# EAGLE library part 26SHC-B-1A (library shc_con)
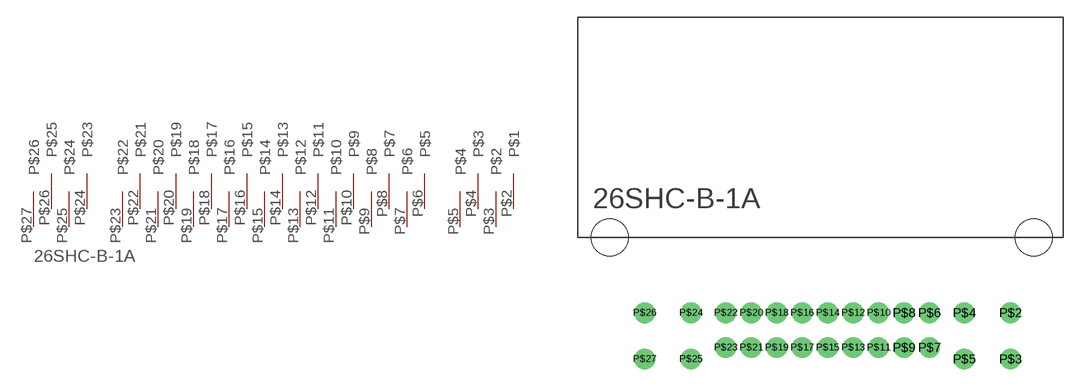
[diagram p1: symbol with the pads of 26SHC-B-1A; footprint 26SHC-B-1A]

Designator prefix -

## 26SHC-B-1A  [26SHC-B-1A]
P$2  P$1
P$3  P$2
P$4  P$3
P$5  P$4
P$6  P$5
P$7  P$6
P$8  P$7
P$9  P$8
P$10  P$9
P$11  P$10
P$12  P$11
P$13  P$12
P$14  P$13
P$15  P$14
P$16  P$15
P$17  P$16
P$18  P$17
P$19  P$18
P$20  P$19
P$21  P$20
P$22  P$21
P$23  P$22
P$24  P$23
P$25  P$24
P$26  P$25
P$27  P$26

## Footprint 26SHC-B-1A (pad centres in mm)
drill 1.2: P$2 -2,-6.5; P$3 -2,-10.5; P$4 -6,-6.5; P$5 -6,-10.5; P$6 -9,-6.5; P$7 -9,-9.5; P$8 -11.2,-6.5; P$9 -11.2,-9.5; P$10 -13.4,-6.5; P$11 -13.4,-9.5; P$12 -15.6,-6.5; P$13 -15.6,-9.5; P$14 -17.8,-6.5; P$15 -17.8,-9.5; P$16 -20,-6.5; P$17 -20,-9.5; P$18 -22.2,-6.5; P$19 -22.2,-9.5; P$20 -24.4,-6.5; P$21 -24.4,-9.5; P$22 -26.6,-6.5; P$23 -26.6,-9.5; P$24 -29.6,-6.5; P$25 -29.6,-10.5; P$26 -33.6,-6.5; P$27 -33.6,-10.5
hole 3.2 at 0,0
hole 3.2 at -36.6,0